# EAGLE library part SW-DIP4 (library Digilent)
Dip Switch, 4 position
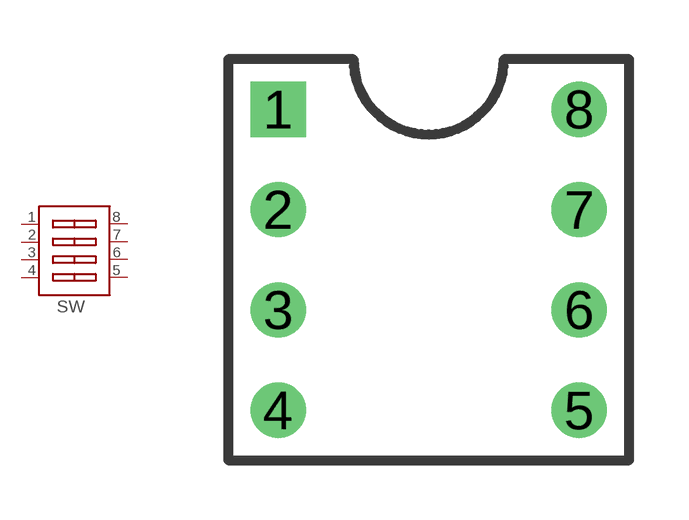
[diagram p64: symbol with the pads of DIP-8C; footprint DIP-8C]

Designator prefix SW

## SW-DIP4T  [DIP-8C]
1  1A  pas
2  2A  pas
3  3A  pas
4  4A  pas
5  4B  pas
6  3B  pas
7  2B  pas
8  1B  pas

## Footprint DIP-8C (pad centres in mm)
drill 0.889 square: 1 -3.81,3.81
drill 0.889 round: 2 -3.81,1.27; 3 -3.81,-1.27; 4 -3.81,-3.81; 5 3.81,-3.81; 6 3.81,-1.27; 7 3.81,1.27; 8 3.81,3.81